# Altium schematic symbol library LimeMicroAltiumLib.SchLib: 659 symbols (part 20 of 22)
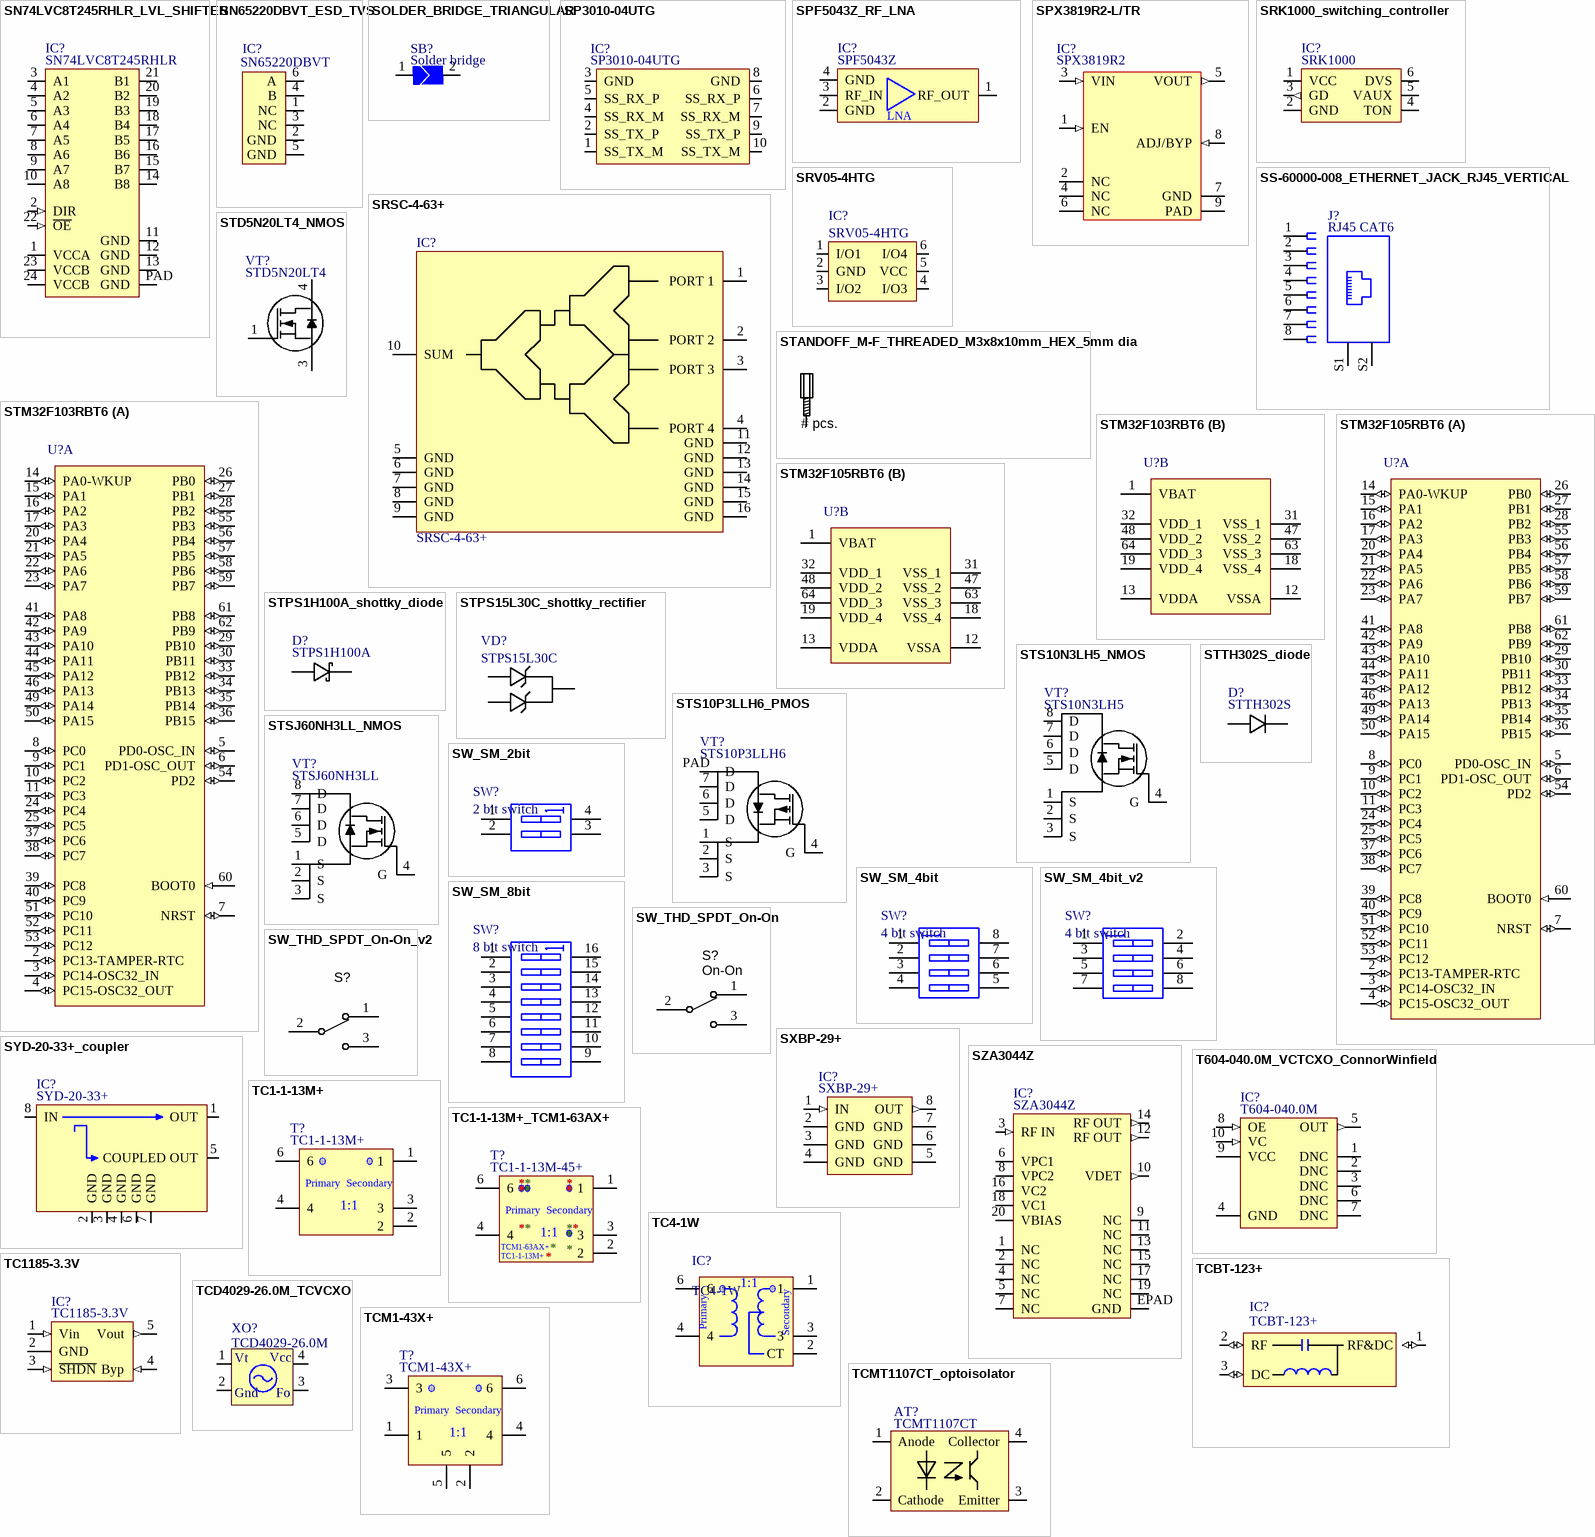
[diagram p97: symbols SN74LVC8T245RHLR_LVL_SHIFTER to TCMT1107CT_optoisolator]

## STS10P3LLH6_PMOS
designator VT?, comment STS10P3LLH6
Part Description: P-Channel 30V 10A (Ta) 2.7W (Ta) Surface Mount 8-SO; Manufacturer: STMicroelectronics; Drain to Source Voltage (Vdss): 30V; Continuous Drain Current (ID): 10A; Rds On Max: 12mR; Input Capacitance: 3.35nF; Max Power Dissipation: 2.7W; ComponentLink1URL: http://www.st.com/web/en/resource/technical/document/datasheet/CD00103832.pdf; ComponentLink1Description: http://www.st.com/web/en/resource/technical/document/datasheet/CD00103832.pdf; ComponentLink2URL: http://www.st.com/content/ccc/resource/technical/document/datasheet/00/75/48/c3/62/90/4a/32/CD00103832.pdf/files/CD00103832.pdf/jcr:content/translations/en.CD00103832.pdf; ComponentLink2Description: http://www.st.com/content/ccc/resource/technical/document/datasheet/00/75/48/c3/62/90/4a/32/CD00103832.pdf/files/CD00103832.pdf/jcr:content/translations/en.CD00103832.pdf; ComponentLink3URL: http://www.mouser.com/ds/2/389/CD00103832-114014.pdf; ComponentLink3Description: http://www.mouser.com/ds/2/389/CD00103832-114014.pdf; Supplier 1: Digi-Key; Manufacturer Part Number 1: STS10P3LLH6; Stock 1: 826; Pricing 1: 1=1.78, 10=1.581, 100=1.2491, 500=0.96872, 1000=0.76478 (USD); Mount: Surface Mount; Case/Package: SOIC; Number of Pins: 8; Min Operating Temperature: -55°C; Max Operating Temperature: 150°C; Packaging: Tape and Reel; Lead Free: Lead Free; Supplier Part Number 1: 497-15482-6-ND
footprint STS10N3LH5_NMOS_SO8 (SOIC, 8-Leads, Body 4,90x3,90mm, Pitch 1,27mm, IPC Medium Density)
pins: 1 S, 2 S, 3 S, 4 G, 5 D, 6 D, 7 D, PAD D

## STSJ60NH3LL_NMOS
designator VT?, comment STSJ60NH3LL
Manufacturer: STMicroelectronics; Part Description: N-Channel 30V 60A (Tc) 3W (Ta), 50W (Tc) Surface Mount 8-SOIC-EP; Rds On Max: 5.7mR; Input Capacitance: 1.81nF; Rise Time: 65ns; Resistance: 0.004R; Drain to Source Voltage (Vdss): 30V; Continuous Drain Current (ID): 15A; Max Power Dissipation: 3W; Fall Time: 20ns; Power Dissipation: 50W; Turn-Off Delay Time: 38ns; Gate to Source Voltage (Vgs): 16V; Supplier 1: Digi-Key; Manufacturer Part Number: STSJ60NH3LL; Stock 1: 6770; Pricing 1: 1=2.63, 10=2.379, 100=1.9119, 500=1.48706, 1000=1.23214 (USD); Mount: Surface Mount; Min Operating Temperature: -55°C; Max Operating Temperature: 150°C; Package Quantity: 1; Packaging: Tape and Reel; Drain to Source Breakdown Voltage: 30V; Drain to Source Resistance: 5.7mR; Voltage Rating (DC): 30V; Current Rating: 15A; On-State Resistance: 5.7mR; Lead Free: Lead Free; ComponentLink1URL: http://www.st.com/web/en/resource/technical/document/datasheet/CD00103832.pdf; ComponentLink1Description: http://www.st.com/web/en/resource/technical/document/datasheet/CD00103832.pdf; ComponentLink2URL: http://www.st.com/content/ccc/resource/technical/document/datasheet/00/75/48/c3/62/90/4a/32/CD00103832.pdf/files/CD00103832.pdf/jcr:content/translations/en.CD00103832.pdf; ComponentLink2Description: http://www.st.com/content/ccc/resource/technical/document/datasheet/00/75/48/c3/62/90/4a/32/CD00103832.pdf/files/CD00103832.pdf/jcr:content/translations/en.CD00103832.pdf; ComponentLink3URL: http://www.mouser.com/ds/2/389/CD00103832-114014.pdf; ComponentLink3Description: http://www.mouser.com/ds/2/389/CD00103832-114014.pdf; Supplier Part Number 1: 497-5252-6-ND
footprint STS10N3LH5_NMOS_SO8 (SOIC, 8-Leads, Body 4,90x3,90mm, Pitch 1,27mm, IPC Medium Density)
pins: 1 S, 2 S, 3 S, 4 G, 5 D, 6 D, 7 D, 8 D

## STTH302S_diode
designator D?, comment STTH302S
Part Description: Diode Standard 200V 3A Surface Mount SMC; Manufacturer: STMicroelectronics; Max Surge Current: 100A; Recovery Time: 35ns; Forward Voltage: 950mV; Forward Current: 3A; Peak Reverse Current: 3uA; Max Repetitive Reverse Voltage (Vrrm): 200V; Element Configuration: Single; Polarity: Standard; Supplier 1: Digi-Key; Manufacturer Part Number 1: STTH302S; Stock 1: 8931; Pricing 1: 1=0.78, 10=0.683, 100=0.5237, 500=0.414, 1000=0.3312 (USD); Mount: Stud,Surface Mount; Case/Package: SMC; Number of Pins: 2; Min Operating Temperature: -65°C; Max Operating Temperature: 175°C; Package Quantity: 1; Packaging: Tape and Reel; Average Rectified Current: 3A; Reverse Recovery Time: 35ns; Peak Non-Repetitive Surge Current: 100A; Max Forward Surge Current (Ifsm): 100A; Voltage Rating (DC): 200V; Current Rating: 3A; Output Current: 3A; Reverse Voltage: 200V; Max Reverse Voltage (DC): 200V; Length: 7.15mm; Height: 2.45mm; Width: 6.25mm; Radiation Hardening: No; REACH SVHC: No SVHC; Lead Free: Lead Free; ComponentLink1URL: http://www.st.com/web/catalog/sense_power/FM64/CL830/SC4/PF70422?referrer=70032480; ComponentLink1Description: http://www.st.com/web/catalog/sense_power/FM64/CL830/SC4/PF70422?referrer=70032480; ComponentLink2URL: http://www.st.com/st-web-ui/static/active/en/resource/technical/document/datasheet/CD00002930.pdf; ComponentLink2Description: http://www.st.com/st-web-ui/static/active/en/resource/technical/document/datasheet/CD00002930.pdf; ComponentLink3URL: https://www.distrelec.biz/Web/Downloads/29/30/CD00002930.pdf?mime=application%2Fpdf; ComponentLink3Description: https://www.distrelec.biz/Web/Downloads/29/30/CD00002930.pdf?mime=application%2Fpdf; ComponentLink4URL: http://www.st.com/content/ccc/resource/technical/document/datasheet/bc/ad/88/88/7d/b3/47/3b/CD00002930.pdf/files/CD00002930.pdf/jcr:content/translations/en.CD00002930.pdf; ComponentLink4Description: http://www.st.com/content/ccc/resource/technical/document/datasheet/bc/ad/88/88/7d/b3/47/3b/CD00002930.pdf/files/CD00002930.pdf/jcr:content/translations/en.CD00002930.pdf; Supplier Part Number 1: 497-5230-6-ND
footprint BAT46JFILM_shottky_diode_SOD323 (SOD-323; 2 Leads; Body 1.8 x 1.35 mm, (LxW))
footprint STTH302S_diode
pins: A, C

## SW_SM_2bit
designator SW?, comment 2 bit switch
Manufacturer: TE Connectivity Alcoswitch Switches; Manufacturer Part Number 1: 1571983-1; Circuit: SPST; Voltage Rating: 24VDC; Mechanical Life: 1,000 Cycles; Current Rating: 25mA; Actuator Level: Flush, Recessed; Pitch: 0.050" (1.27mm), Half; Actuator Type: Slide (Standard); Body Material: Polyphenylene Sulfide (PPS); Number of Positions: 2; Washable: Yes; Supplier 1: Digi-Key; Features: Tape Seal; Termination Style: Gull Wing; Category: Switches; Electrical Life: 1,000 Cycles; Length: 0.144" (3.67mm); Contact Finish: Gold; Packaging: Tube; Operating Temperature: -30°C ~ 85°C; RoHS: RoHS Compliant; Contact Material: Copper Alloy; Height Above Board: 0.091" (2.30mm); Mounting Type: Surface Mount; Supplier Part Number 1: 450-1431-ND
footprint SW_2WAY_SMD_1P27 (DIP Switch; 16 Leads, 1.27 pitch)
pins: 1 A1, 2 A2, 3 B2, 4 B1

## SW_SM_4bit
designator SW?, comment 4 bit switch
Manufacturer Part Number 1: A6H-4101; Manufacturer: Omron Electronics Inc-EMC Div; Pitch: 0.050" (1.27mm), Half; Mechanical Life: 1,000 Cycles; Washable: No; Current Rating: 25mA; Number of Positions: 4; Voltage Rating: 24VDC; Actuator Level: Flush, Recessed; Circuit: SPST; Actuator Type: Slide (Standard); Supplier 1: Digi-Key; Height Above Board: 0.061" (1.55mm); RoHS: RoHS Compliant; Termination Style: Gull Wing; Electrical Life: 1,000 Cycles; Length: 0.248" (6.31mm); Category: Switches; Operating Temperature: -20°C ~ 70°C; Body Material: -; Contact Material: -; Features: -; Mounting Type: Surface Mount; Contact Finish: -; Packaging: Tube; Supplier Part Number 1: SW1080-ND
footprint SW_4WAY_SMD_1P27 (DIP Switch; 8 Leads, 1.27 pitch)
pins: 1 A1, 2 A2, 3 A3, 4 A4, 5 B4, 6 B3, 7 B2, 8 B1

## SW_SM_4bit_v2
designator SW?, comment 4 bit switch
Part Description: Dip Switch SPST Position Through Hole, Right Angle Piano Actuator 25mA 24VDC; Manufacturer: CUI Devices; Manufacturer Part Number 1: DS02C-254-1L-04BE; Supplier 1: Digi-Key; Supplier Part Number 1: 2223-DS02C-254-1L-04BE-ND; Stock 1: 1133; Pricing 1: 1=0,60000, 10=0,58100, 25=0,55920, 100=0,48400, 250=0,44100, 500=0,40874, 1000=0,36572, 2500=0,34636, 5000=0,32054 (USD); RoHS: Yes
footprint DS02C-254-1L-04BE_DIP_SWITCH_4PIN
pins: 1 A1, 2 B1, 3 A2, 4 B2, 5 A3, 6 B3, 7 A4, 8 B4

## SW_SM_8bit
designator SW?, comment 8 bit switch
Manufacturer: Omron Electronics Inc-EMC Div; Manufacturer Part Number: A6H-8101; Actuator Level: Flush; Actuator Type: Standard; Circuit: SPST; Contact Rating @ Voltage: 0.025A @ 24VDC; Number of Positions: 8; Supplier 1: Digi-Key; Mounting Type: Surface Mount; Category: Switches; Supplier Part Number 1: SW1118-ND
footprint SW_8WAY_SMD (DIP Switch; 16 Leads)
pins: 1 A1, 2 A2, 3 A3, 4 A4, 5 A5, 6 A6, 7 A7, 8 A8, 9 B8, 10 B7, 11 B6, 12 B5, 13 B4, 14 B3, 15 B2, 16 B1

## SW_THD_SPDT_On-On
designator S?, comment ON-ON
Switch THD vertical toggle SPDT; Manufacturer 1: TE Connectivity; Manufacturer Part Number 1: SLS121PC04; Contact Rating @ Voltage: 0.25A @ 125VAC; Circuit: SPDT; Mounting Type: PCB mount; Supplier 1: Digi-Key; Supplier Part Number 1: 450-1598-ND; Switch Function: On-On
footprint SWITCH_SPDT_SLIDER (TE Connectivity SLS121PC04 SPDT slider)
footprint SWITCH_SPDT_SLIDER (TE Connectivity SLS121PC04 SPDT slider)
pins: 1, 2, 3

## SW_THD_SPDT_On-On_v2
designator S?, comment ON-ON  (value not drawn)
Switch THD vertical toggle SPDT; Manufacturer Part Number: 1101M2S3CQE2; Manufacturer: C&K Components; Voltage Rating - AC: 120V; Actuator Length: 5.08mm; Current Rating: 6A (AC/DC); Electrical Life: 40,000 Cycles; Switch Travel: 2.16mm; Voltage Rating - DC: 28V; Supplier 1: Digi-Key; Termination Style: PC Pin; Operating Temperature: -30°C ~ 65°C; Category: Switches; Switch Function: On-On; Supplier Part Number 1: CKN5001-ND
footprint SWITCH_SPDT_SLIDER - duplicate (TE Connectivity SLS121PC04 SPDT slider)
pins: 1, 2, 3

## SXBP-29+
designator IC?
Manufacturer: MiniCircuits; Part Description: Bandpass Filter;  50Ω; 24 to 35 MHz; Low insertion loss (0.9dB typical); Manufacturer Part Number 1: SXBP-29+; Supplier Part Number 1: SXBP-29+; Supplier 1: Minicircuits
footprint SXBP-29+
pins: 1 IN (in), 2 GND, 3 GND, 4 GND, 5 GND, 6 GND, 7 GND, 8 OUT (out)

## SYD-20-33+_coupler
designator IC?, comment SYD-20-33+
Directional RF coupler 30 to 3000 MHz
footprint SYD-20-33+
pins: 1 OUT (out), 2 GND, 3 GND, 4 GND, 5 COUPLED OUT (out), 6 GND, 7 GND, 8 IN (in)

## SZA3044Z
designator IC?
Manufacturer: RFMD; Manufacturer Part Number 1: SZA-3044Z; Part Description: RF Amplifier IC 802.16/WiMax, WLL 2.7GHz ~ 3.8GHz 20-QFN (4x4); Gain: 26dB; Frequency: 3.8GHz; P1dB: 30dBm; Noise Figure: 5dB; Operating Supply Current: 240mA; Test Frequency: 3.6GHz; Supplier 1: Digi-Key; Stock 1: 2697; Pricing 1: 1=8,64000, 10=7,92300, 25=7,20320, 100=6,48270, 250=5,94248, 500=5,40226, 1000=4,86203 (USD); RoHS: Yes; Case/Package: QFN; Package Quantity: 1; Packaging: Tape and Reel; ComponentLink1URL: https://datasheet.ciiva.com/26924/sza-3044z-26924889.pdf?src-supplier=IIIC; ComponentLink1Description: https://datasheet.ciiva.com/26924/sza-3044z-26924889.pdf?src-supplier=IIIC; ComponentLink2URL: https://datasheet.ciiva.com/2790/sza3044z-data-sheet-2790248.pdf?src-supplier=Digi-Key; ComponentLink2Description: https://datasheet.ciiva.com/2790/sza3044z-data-sheet-2790248.pdf?src-supplier=Digi-Key; ComponentLink3URL: https://datasheet.ciiva.com/2790/sza3044z-data-sheet-2790249.pdf?src-supplier=Digi-Key; ComponentLink3Description: https://datasheet.ciiva.com/2790/sza3044z-data-sheet-2790249.pdf?src-supplier=Digi-Key; ComponentLink4URL: https://datasheet.ciiva.com/2790/sza3044z-data-sheet-2790250.pdf?src-supplier=Digi-Key; ComponentLink4Description: https://datasheet.ciiva.com/2790/sza3044z-data-sheet-2790250.pdf?src-supplier=Digi-Key; Supplier Part Number 1: 599-1071-1-ND
footprint SZA3044Z_QFN20 (Footprint not found)
pins: 1 NC, 2 NC, 3 RF IN (in), 4 NC, 5 NC, 6 VPC1 (power), 7 NC, 8 VPC2 (power), 9 NC, 10 VDET (out), 11 NC, 12 RF OUT (out), 13 NC, 14 RF OUT (out), 15 NC, 16 VC2 (power), 17 NC, 18 VC1 (power), 19 NC, 20 VBIAS (power), EPAD GND

## T604-040.0M_VCTCXO_ConnorWinfield
designator IC?, comment T604-040.0M
Part Description: 40 MHz VCTCXO LVCMOS Oscillator 3.3V Enable/Disable 10-SMD, No Lead; Manufacturer: Connor-Winfield; Description: LVCMOS Output Clock Oscillator, 40MHz Nom; Fall Time: 8ns; Frequency: 40MHz; Frequency Stability: 0.28ppm; Load Capacitance: 15pF; Max Supply Current: 6mA; Max Supply Voltage: 3.465V; Min Supply Voltage: 3.135V; Nominal Supply Voltage (DC): 3.3V; Output Type: LVCMOS; Supplier 1: DigiKey; Supplier Part Number 1: CW776CT-ND; Manufacturer Part Number 1: T604-040.0M; Stock 1: 73; Pricing 1: 1=30,65, 10=27,54 (USD); RoHS: Compliant; Case/Package: SMD/SMT; Height: 2.3876mm; Introduction Date: 2008-05-23; Length: 7.0104mm; Lifecycle Status: Production; Max Operating Temperature: 85°C; Min Operating Temperature: -40°C; Mount: Surface Mount; Number of Pins: 10; Number of Terminals: 10; Packaging: Cut Tape (CT); REACH SVHC: Unaffected; Rise Time: 8ns; Width: 5.0038mm; ComponentLink1URL: https://datasheet.octopart.com:443/T604-040.0M-Connor-Winfield-datasheet-180230288.pdf?src-supplier=IHS; ComponentLink1Description: https://datasheet.octopart.com:443/T604-040.0M-Connor-Winfield-datasheet-180230288.pdf?src-supplier=IHS
footprint T604-040.0M_VCTCXO_ConnorWinfield (Footprint not found)
pins: 1 DNC, 2 DNC, 3 DNC, 4 GND, 5 OUT (out), 6 DNC, 7 DNC, 8 OE (in), 9 VCC (power), 10 VC (in)

## TC1-1-13M+
designator T?
Part Description: RF balun; 1:1 ratio; 3 dB bandwidth: 0.1 MHz to 3.5 GHz; 3.8mm x 3.8mm; Supplier 1: Minicircuits; Manufacturer Part Number 1: TC1-1-13M+; Supplier Part Number: TC1-1-13M+
footprint TC1-1-13MA+_v2 (Balun)
pins: 1, 2, 3, 4, 6
text: Primary; Secondary; 1:1

## TC1-1-13M+_TCM1-63AX+
designator T?, comment TC1-1-13M-45+
Part Description: RF balun; 1:1 ratio; 3 dB bandwidth: 0.1 MHz to 3.5 GHz; 3.8mm x 3.8mm; Supplier 1: Minicircuits; Manufacturer Part Number 1: TC1-1-13M-45+; Supplier Part Number: TC1-1-13M-45+
footprint TC1-1-13MA+_JA4220-AL_TCM1-63AX+ (Balun compatible with TC1-1-13MA+, JA4220-AL_ and TCM1-63AX+)
pins: 1, 2, 3, 4, 6
text: Primary; Secondary; 1:1; TCM1-63AX+

## TC4-1W
designator IC?
Part Description: RF Transformer; 50R, 3 to 800 MHz; with secondary center tap; Manufacturer: Mini-CIrcuits; Manufacturer Part Number 1: TC4-1W; Supplier Part Number 1: TC4-1W; Supplier 1: Mini-Circuits
footprint TC1-1-13MA+_JA4220-AL_ (Balun compatible with TC1-1-13MA+ and JA4220-AL_)
pins: 1, 2 CT, 3, 4, 6
text: 1:1; Primary; Secondary

## TC1185-3.3V
designator IC?
Part Description: IC REG LDO 3.3V 0.15A SOT23-5; Manufacturer: Microchip Technology; Manufacturer Part Number 1: TC1185-3.3VCT713; Regulator Topology: Positive Fixed; Voltage - Output: 3.3V; Current - Output: 150mA; Voltage - Dropout (Typical): 0.27V @ 150mA; Voltage - Input: Up to 6V; Supplier 1: Digi-Key; RoHS: RoHS Compliant; Category: Integrated Circuits (ICs); Stock 1: 24034; Pricing 1: 1=0.38, 25=0.3192, 100=0.2884 (USD); Packaging: Cut Tape (CT); Part Status: Active; Current - Limit (Min): -; Operating Temperature: -40°C ~ 125°C; Mounting Type: Surface Mount; Package / Case: SC-74A, SOT-753; Supplier Device Package: SOT-23-5; ComponentLink1URL: http://www.microchip.com/mymicrochip/filehandler.aspx?ddocname=en011417; ComponentLink1Description: http://www.microchip.com/mymicrochip/filehandler.aspx?ddocname=en011417; Supplier Part Number 1: TC11853.3VCT713CT-ND
footprint SOT23-5
pins: 1 Vin (in), 2 GND, 3 ~{SHDN} (in), 4 Byp (in), 5 Vout (out)

## TCBT-123+
designator IC?
Surface mount bias-tee, wideband; Manufacturer_Name: Mini-Circuits; Manufacturer_Part_Number: TCBT-14+; Supplier Part Number 1: TCBT-14+; Supplier 1: Mini-Circuits; Part Description: Surface mount bias-tee, wideband
footprint TCBT-123+_GU1414
pins: 1 RF&DC (io), 2 RF (io), 3 DC (io), 4 NOT_USED hidden, 5 PAD_1 hidden, 6 PAD_2 hidden

## TCD4029-26.0M_TCVCXO
designator XO?, comment TCD4029-26.0M
pins: 1 Vt (power), 2 GND, 3 Fo, 4 VCC (power)
text: Vcc; Gnd

## TCM1-43X+
designator T?
Also compatible with JA4220-AL_; Part Description: RF balun; 1:1 ratio; 3 dB bandwidth: 10 MHz to 4 GHz; 3.8mm x 3.8mm; Supplier 1: Coilcraft; Manufacturer Part Number 1: TCM1-43X+; Supplier Part Number: TCM1-43X+
footprint TCM1-43X+ (Balun)
pins: 1, 2, 3, 4, 5, 6
text: Primary; Secondary; 1:1

## TCMT1107CT_optoisolator
designator AT?, comment TCMT1107CT
Part Description: Optoisolator Transistor Output 5000Vrms 1 Channel 4-SMD; Manufacturer: Vishay Semiconductors; Reverse Breakdown Voltage: 6V; Max Power Dissipation: 250mW; Number of Channels: 1; Output Voltage: 70V; Forward Voltage: 1.6V; Forward Current: 60mA; Rise Time: 3s; Output Current per Channel: 50mA; Collector Emitter Saturation Voltage: 300mV; Isolation Voltage: 3.75kV; Fall Time: 4.7s; Current Transfer Ratio: 160%; ComponentLink1URL: https://www.verical.com/server-webapp/html/getDatasheet?partID=312696; ComponentLink1Description: https://www.verical.com/server-webapp/html/getDatasheet?partID=312696; ComponentLink2URL: https://www.fairchildsemi.com/datasheets/FO/FOD817A.pdf; ComponentLink2Description: https://www.fairchildsemi.com/datasheets/FO/FOD817A.pdf; ComponentLink3URL: http://www.fairchildsemi.com/ds/FO/FOD817A.pdf; ComponentLink3Description: http://www.fairchildsemi.com/ds/FO/FOD817A.pdf; ComponentLink4URL: http://www.fairchildsemi.com/datasheets/FO/FOD817A.pdf; ComponentLink4Description: http://www.fairchildsemi.com/datasheets/FO/FOD817A.pdf; ComponentLink5URL: http://www.mouser.com/ds/2/149/FOD817A-194238.pdf; ComponentLink5Description: http://www.mouser.com/ds/2/149/FOD817A-194238.pdf; ComponentLink6URL: https://www.fairchildsemi.com/datasheets/FO/FOD817D.pdf; ComponentLink6Description: https://www.fairchildsemi.com/datasheets/FO/FOD817D.pdf; Supplier 1: Digi-Key; Manufacturer Part Number 1: TCMT1107; Stock 1: 139303; Pricing 1: 1=0.75, 10=0.585, 25=0.4848, 100=0.418, 250=0.36784, 500=0.31768, 1000=0.2508 (USD); Mount: PCB,Surface Mount; Case/Package: SOP; Number of Pins: 4; Contact Plating: Matte,Tin; Min Operating Temperature: -40°C; Max Operating Temperature: 100°C; Packaging: Tape and Reel; Package Quantity: 1; Collector Emitter Voltage (VCEO): 70V; Max Output Voltage: 70V; Max Collector Current: 50mA; Reverse Voltage (DC): 6V; Number of Elements: 1; Power Dissipation: 250mW; Max Input Current: 60mA; Collector Emitter Breakdown Voltage: 70V; Input Current: 50mA; Voltage Rating (DC): 70V; Voltage: 6V; Radiation Hardening: No; REACH SVHC: No SVHC; Lead Free: Lead Free; ComponentLink7URL: http://www.jameco.com/Jameco/Products/ProdDS/1107109.pdf; ComponentLink7Description: http://www.jameco.com/Jameco/Products/ProdDS/1107109.pdf; ComponentLink8URL: http://www.vishay.com/docs/83510/tcmt1100.pdf; ComponentLink8Description: http://www.vishay.com/docs/83510/tcmt1100.pdf; ComponentLink9URL: http://www.mouser.com/ds/2/427/tcmt1100-103040.pdf; ComponentLink9Description: http://www.mouser.com/ds/2/427/tcmt1100-103040.pdf; ComponentLink10URL: http://www.farnell.com/datasheets/485045.pdf; ComponentLink10Description: http://www.farnell.com/datasheets/485045.pdf; Supplier Part Number 1: TCMT1107CT-ND
footprint TCMT1107CT_optoisolator
pins: 1 Anode, 2 Cathode, 3 Emitter, 4 Collector

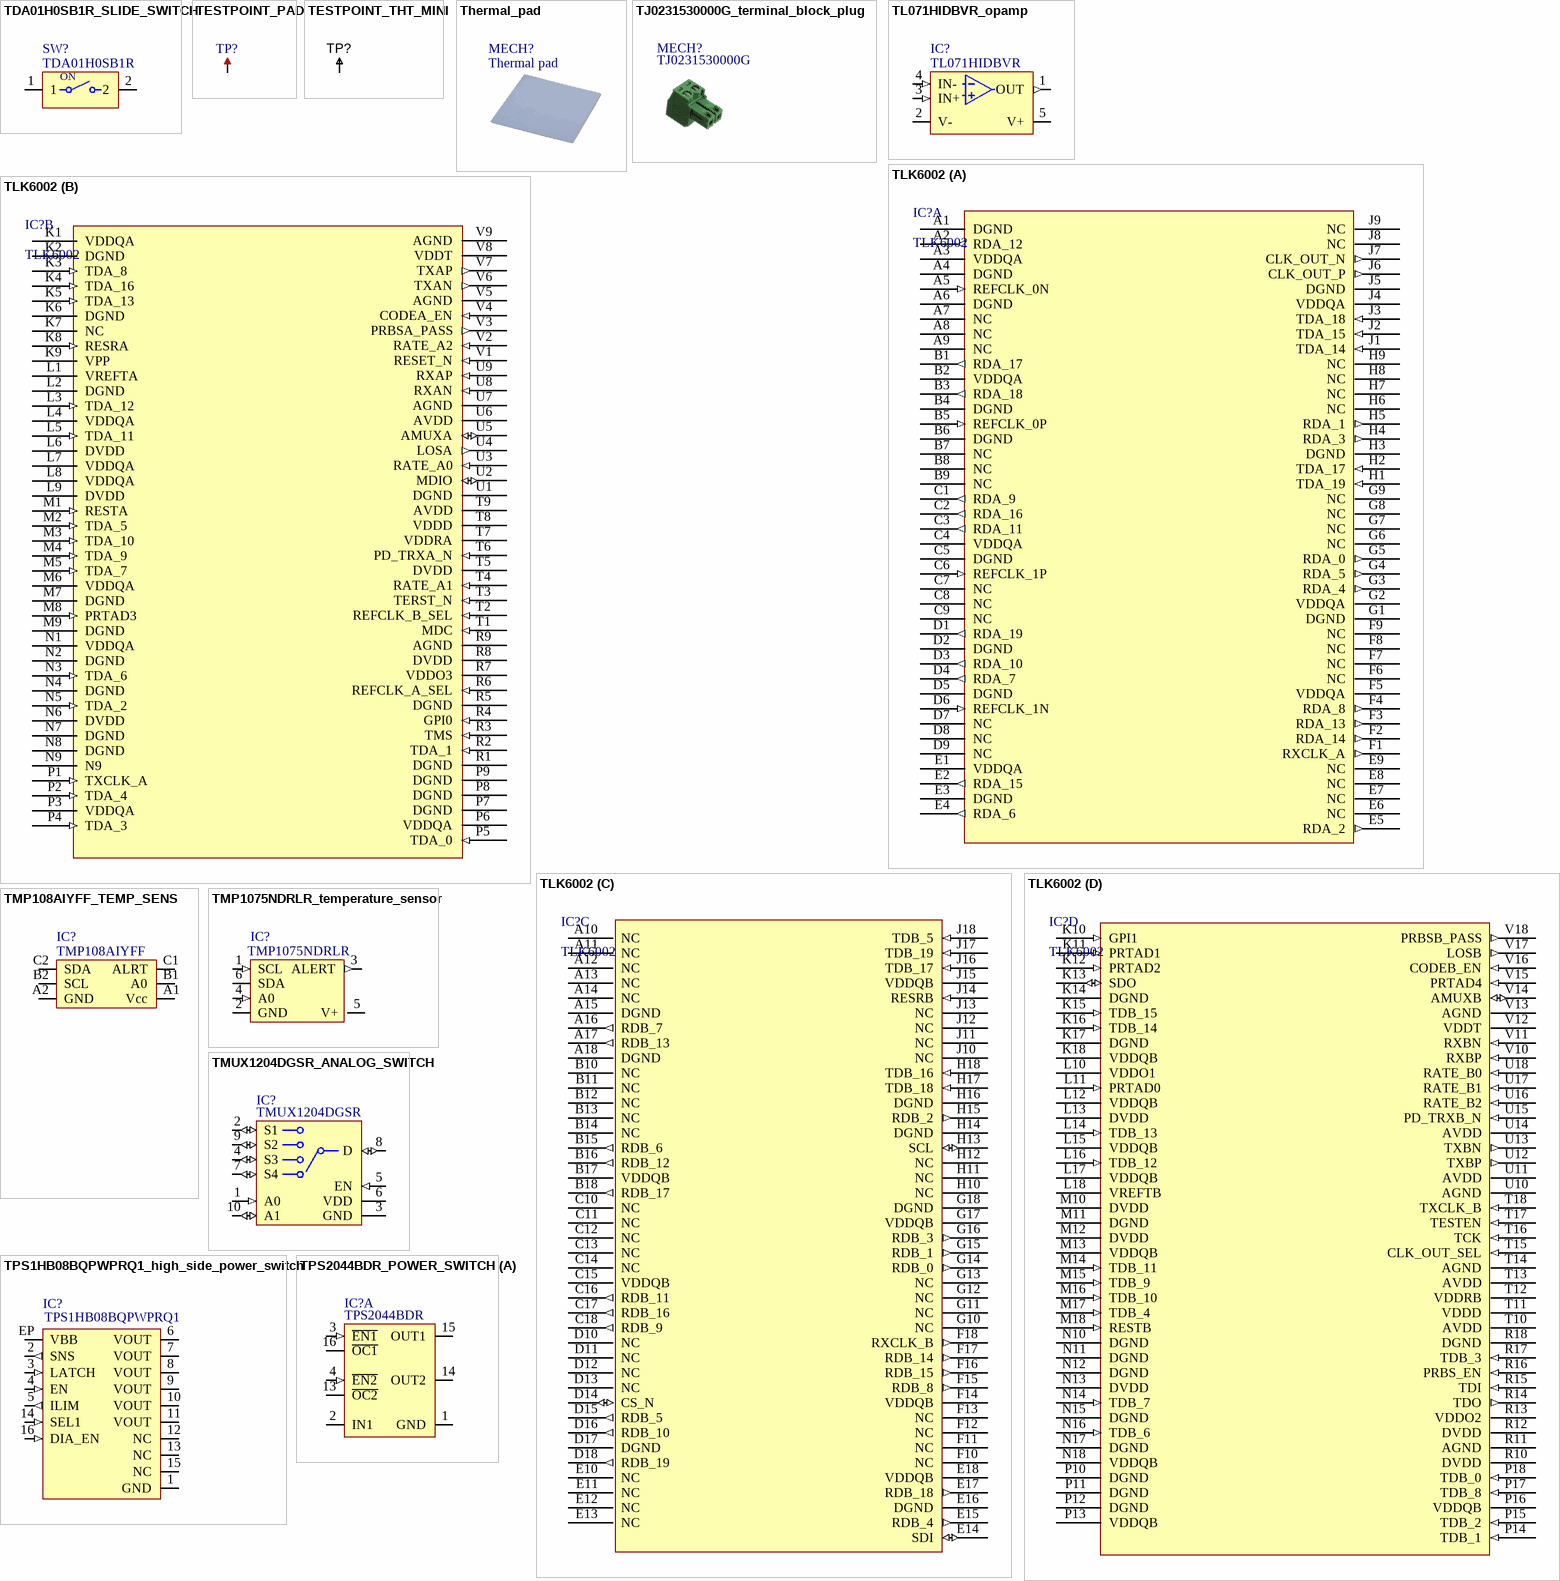
[diagram p68: symbols TDA01H0SB1R_SLIDE_SWITCH to TPS2044BDR_POWER_SWITCH]

## TDA01H0SB1R_SLIDE_SWITCH
designator SW?, comment TDA01H0SB1R
Manufacturer: C&K Components; Actuator Material: Liquid Crystal Polymer; Contact Current Rating: 25mA; Contact Resistance: 100mΩ; Electrical Life: 1kcycles; Max Voltage Rating (DC): 24V; Number of Circuits: 1; Sealable: MOLDED; Throw Configuration: SPST; Washable: Yes; Part Description: *; Supplier 1: DigiKey; Supplier Part Number 1: CKN10538CT-ND; Manufacturer Part Number 1: TDA01H0SB1R; Stock 1: 5831; Pricing 1: 1=2,83, 10=2,374, 25=2,2008, 100=1,9605, 250=1,81988, 500=1,72422, 1000=1,63806, 2500=1,53834, 5000=1,47313 (USD); RoHS: Compliant; Case/Package: DIP; China RoHS: Compliant; Contact Plating: Gold; Country of Origin: Mainland China; Export Control Classification Number (ECCN) Code: EAR99; Height: 2.3114mm; Harmonized Tariff Schedule (HTS) Code: 8536.50.70.00; Insulation Resistance: 100MΩ; Introduction Date: 2013-03-25; Lead Free: Lead Free; Length: 2.4mm; Life (Cycles): 1kcycles; Lifecycle Status: Production; Max Current Rating: 25mA; Max Operating Temperature: 85°C; Min Operating Temperature: -40°C; Mount: Surface Mount; Number of Positions: 1; REACH SVHC: Yes; Termination: SMD/SMT; Voltage Rating (DC): 24V; ComponentLink1URL: https://datasheet.octopart.com:443/TDA01H0SB1R-C%26K-Components-datasheet-62111180.pdf?src-supplier=Farnell; ComponentLink1Description: https://datasheet.octopart.com:443/TDA01H0SB1R-C%26K-Components-datasheet-62111180.pdf?src-supplier=Farnell; ComponentLink2URL: https://datasheet.octopart.com:443/TDA01H0SB1R-C%26K-Components-datasheet-27907599.pdf?src-supplier=Newark; ComponentLink2Description: https://datasheet.octopart.com:443/TDA01H0SB1R-C%26K-Components-datasheet-27907599.pdf?src-supplier=Newark; ComponentLink3URL: https://datasheet.octopart.com:443/TDA01H0SB1R-C%26K-Components-datasheet-154730585.pdf?src-supplier=Electro+Sonic; ComponentLink3Description: https://datasheet.octopart.com:443/TDA01H0SB1R-C%26K-Components-datasheet-154730585.pdf?src-supplier=Electro+Sonic; ComponentLink4URL: https://datasheet.octopart.com:443/TDA01H0SB1R-C%26K-Components-datasheet-110647879.pdf?src-supplier=Sager+Electronics; ComponentLink4Description: https://datasheet.octopart.com:443/TDA01H0SB1R-C%26K-Components-datasheet-110647879.pdf?src-supplier=Sager+Electronics; ComponentLink5URL: https://datasheet.octopart.com:443/TDA01H0SB1R-C%26K-Components-datasheet-24578965.pdf?src-supplier=Future+Electronics; ComponentLink5Description: https://datasheet.octopart.com:443/TDA01H0SB1R-C%26K-Components-datasheet-24578965.pdf?src-supplier=Future+Electronics; ComponentLink6URL: http://sigma.octopart.com:80/reach_statement/ITT-company-18.pdf?src-supplier=Compliance+Statements; ComponentLink6Description: http://sigma.octopart.com:80/reach_statement/ITT-company-18.pdf?src-supplier=Compliance+Statements
footprint TDA01H0SB1R_SLIDE_SWITCH
pins: 1, 2
text: ON

## TESTPOINT_PAD
designator TP?  (value not drawn)  (no BOM)
Test Point PCB mount Miniature White
pins: 1

## TESTPOINT_THT_MINI
designator TP?  (value not drawn)
Test Point PCB mount Miniature White; Manufacturer 1: Keystone Electronics; Manufacturer Part Number 1: 5002; Mounting Type: 0.040" (1.0mm) Hole Diameter; Material: Base, Nylon 46, UL 94V-0; Supplier 1: Digi-Key; Supplier Part Number 1: 5002K-ND
footprint TP-THT-MINI (Thru-hole test point loop)
pins: 1

## Thermal_pad
designator MECH?, comment Thermal pad  (mechanical)

## TJ0231530000G_terminal_block_plug
designator MECH?, comment TJ0231530000G  (mechanical)
Part Description: 2 Position Terminal Block Plug, Female Sockets 0.150" (3.81mm) 180° Free Hanging (In-Line); Manufacturer: Amphenol Anytek; Approvals: TUV, UL, VDE, cUL; Current Rating: 10A; Number of Contacts: 2; Number of Levels: 1; Voltage Rating: 300V; Wire/Cable Gauge: 16AWG; Supplier 1: DigiKey; Supplier Part Number 1: 609-3797-ND; Manufacturer Part Number 1: TJ0231530000G; Stock 1: 8633; Pricing 1: 1=0,67, 10=0,495, 25=0,4316, 50=0,3886, 100=0,3511, 250=0,31004, 500=0,28506, 2480=0,24419, 7440=0,22654 (USD); RoHS: Compliant; Color: Green; Export Control Classification Number (ECCN) Code: EAR99; Harmonized Tariff Schedule (HTS) Code: 8536.90.40.00; Introduction Date: 2018-05-09; Lifecycle Status: Production; Mount: Screw; Number of Pins: 2; Number of Rows: 1; Orientation: Straight; ComponentLink1URL: https://datasheet.octopart.com:443/TJ0231530000G-Amphenol-datasheet-182018099.pdf?src-supplier=IHS; ComponentLink1Description: https://datasheet.octopart.com:443/TJ0231530000G-Amphenol-datasheet-182018099.pdf?src-supplier=IHS; ComponentLink2URL: https://datasheet.octopart.com:443/TJ0231530000G-Amphenol-Anytek-datasheet-182363262.pdf?src-supplier=IHS; ComponentLink2Description: https://datasheet.octopart.com:443/TJ0231530000G-Amphenol-Anytek-datasheet-182363262.pdf?src-supplier=IHS; ComponentLink3URL: https://datasheet.octopart.com:443/TJ0231530000G-Amphenol-Anytek-datasheet-182251115.pdf?src-supplier=Electro+Sonic; ComponentLink3Description: https://datasheet.octopart.com:443/TJ0231530000G-Amphenol-Anytek-datasheet-182251115.pdf?src-supplier=Electro+Sonic; ComponentLink4URL: https://datasheet.octopart.com:443/TJ0231530000G-Amphenol-Anytek-datasheet-188853865.pdf?src-supplier=TME; ComponentLink4Description: https://datasheet.octopart.com:443/TJ0231530000G-Amphenol-Anytek-datasheet-188853865.pdf?src-supplier=TME; ComponentLink5URL: https://datasheet.octopart.com:443/TJ0231530000G-Amphenol-Anytek-datasheet-188853884.pdf?src-supplier=TME; ComponentLink5Description: https://datasheet.octopart.com:443/TJ0231530000G-Amphenol-Anytek-datasheet-188853884.pdf?src-supplier=TME

## TL071HIDBVR_opamp
designator IC?, comment TL071HIDBVR
Manufacturer: Texas Instruments; Supplier 1: Digikey; Supplier Part Number 1: 296-TL071HIDBVRCT-ND; Manufacturer Part Number 1: TL071HIDBVR; Stock 1: 8747; Pricing 1: 1=0,21, 10=0,14, 25=0,1236, 100=0,1054, 250=0,09668, 500=0,09146, 1000=0,08715 (USD); RoHS: No; Case/Package: 926Case; Number of Pins: 5NUMBER; Length: 2.9mm; Width: 1.6mm; Height: 1.45mm; Thickness: 1.2mm
footprint TL071HIDBVR_opamp_SOT23-5
pins: 1 OUT (out), 2 V- (power), 3 IN+ (in), 4 IN- (in), 5 V+ (power)

## TLK6002
designator IC?
Manufacturer: Texas Instruments; Manufacturer Part Number: TLK6002ZEU; Voltage - Supply: 1.5 V, 1.8 V; Number of Drivers/Receivers: 2/2; Duplex: Full; Protocol: Gigabit Ethernet; Supplier 1: Digi-Key; Type: Transceiver; Packaging: Tray; RoHS: RoHS Compliant; Category: Integrated Circuits (ICs); Operating Temperature: -40°C ~ 85°C; Mounting Type: Surface Mount; Package / Case: 324-BGA; Supplier Device Package: 324-BGA; Data Rate: -; Receiver Hysteresis: -; Supplier Part Number 1: 296-27459-5-ND
footprint TLK6002
part A pins: A1 DGND (power), A2 RDA_12 (out), A3 VDDQA (power), A4 DGND (power), A5 REFCLK_0N (in), A6 DGND (power), A7 NC, A8 NC, A9 NC, B1 RDA_17 (out), B2 VDDQA (power), B3 RDA_18 (out), B4 DGND (power), B5 REFCLK_0P (in), B6 DGND (power), B7 NC, B8 NC, B9 NC, C1 RDA_9 (out), C2 RDA_16 (out), C3 RDA_11 (out), C4 VDDQA (power), C5 DGND (power), C6 REFCLK_1P (in), C7 NC, C8 NC, C9 NC, D1 RDA_19 (out), D2 DGND (power), D3 RDA_10 (out), D4 RDA_7 (out), D5 DGND (power), D6 REFCLK_1N (in), D7 NC, D8 NC, D9 NC, E1 VDDQA (power), E2 RDA_15 (out), E3 DGND (power), E4 RDA_6 (out), E5 RDA_2 (out), E6 NC, E7 NC, E8 NC, E9 NC, F1 RXCLK_A (out), F2 RDA_14 (out), F3 RDA_13 (out), F4 RDA_8 (out), F5 VDDQA (power), F6 NC, F7 NC, F8 NC, F9 NC, G1 DGND (power), G2 VDDQA (power), G3 RDA_4 (out), G4 RDA_5 (out), G5 RDA_0 (out), G6 NC, G7 NC, G8 NC, G9 NC, H1 TDA_19 (in), H2 TDA_17 (in), H3 DGND (power), H4 RDA_3 (out), H5 RDA_1 (out), H6 NC, H7 NC, H8 NC, H9 NC, J1 TDA_14 (in), J2 TDA_15 (in), J3 TDA_18 (in), J4 VDDQA (power), J5 DGND (power), J6 CLK_OUT_P (out), J7 CLK_OUT_N (out), J8 NC, J9 NC
part B pins: K1 VDDQA (power), K2 DGND (power), K3 TDA_8 (in), K4 TDA_16 (in), K5 TDA_13 (in), K6 DGND (power), K7 NC, K8 RESRA (in), K9 VPP (power), L1 VREFTA (power), L2 DGND (power), L3 TDA_12 (in), L4 VDDQA (power), L5 TDA_11 (in), L6 DVDD (power), L7 VDDQA (power), L8 VDDQA (power), L9 DVDD (power), M1 RESTA (in), M2 TDA_5 (in), M3 TDA_10 (in), M4 TDA_9 (in), M5 TDA_7 (in), M6 VDDQA (power), M7 DGND (power), M8 PRTAD3 (in), M9 DGND (power), N1 VDDQA (power), N2 DGND (power), N3 TDA_6 (in), N4 DGND (power), N5 TDA_2 (in), N6 DVDD (power), N7 DGND (power), N8 DGND (power), N9, P1 TXCLK_A (in), P2 TDA_4 (in), P3 VDDQA (power), P4 TDA_3 (in), P5 TDA_0 (in), P6 VDDQA (power), P7 DGND (power), P8 DGND (power), P9 DGND (power), R1 DGND (power), R2 TDA_1 (in), R3 TMS (in), R4 GPI0 (in), R5 DGND (power), R6 REFCLK_A_SEL (in), R7 VDDO3 (power), R8 DVDD (power), R9 AGND (power), T1 MDC (in), T2 REFCLK_B_SEL (in), T3 TERST_N (in), T4 RATE_A1 (in), T5 DVDD (power), T6 PD_TRXA_N (in), T7 VDDRA (power), T8 VDDD (power), T9 AVDD (power), U1 DGND (power), U2 MDIO (io), U3 RATE_A0 (in), U4 LOSA (out), U5 AMUXA (io), U6 AVDD (power), U7 AGND (power), U8 RXAN (in), U9 RXAP (in), V1 RESET_N (in), V2 RATE_A2 (in), V3 PRBSA_PASS (out), V4 CODEA_EN (in), V5 AGND (power), V6 TXAN (out), V7 TXAP (out), V8 VDDT (power), V9 AGND (power)
part C pins: A10 NC, A11 NC, A12 NC, A13 NC, A14 NC, A15 DGND (power), A16 RDB_7 (out), A17 RDB_13 (out), A18 DGND (power), B10 NC, B11 NC, B12 NC, B13 NC, B14 NC, B15 RDB_6 (out), B16 RDB_12 (out), B17 VDDQB (power), B18 RDB_17 (out), C10 NC, C11 NC, C12 NC, C13 NC, C14 NC, C15 VDDQB (power), C16 RDB_11 (out), C17 RDB_16 (out), C18 RDB_9 (out), D10 NC, D11 NC, D12 NC, D13 NC, D14 CS_N (io), D15 RDB_5 (out), D16 RDB_10 (out), D17 DGND (power), D18 RDB_19 (out), E10 NC, E11 NC, E12 NC, E13 NC, E14 SDI (io), E15 RDB_4 (out), E16 DGND (power), E17 RDB_18 (out), E18 VDDQB (power), F10 NC, F11 NC, F12 NC, F13 NC, F14 VDDQB (power), F15 RDB_8 (out), F16 RDB_15 (out), F17 RDB_14 (out), F18 RXCLK_B (out), G10 NC, G11 NC, G12 NC, G13 NC, G14 RDB_0 (out), G15 RDB_1 (out), G16 RDB_3 (out), G17 VDDQB (power), G18 DGND (power), H10 NC, H11 NC, H12 NC, H13 SCL (io), H14 DGND (power), H15 RDB_2 (out), H16 DGND (power), H17 TDB_18 (in), H18 TDB_16 (in), J10 NC, J11 NC, J12 NC, J13 NC, J14 RESRB (in), J15 VDDQB (power), J16 TDB_17 (in), J17 TDB_19 (in), J18 TDB_5 (in)
part D pins: K10 GPI1 (in), K11 PRTAD1 (in), K12 PRTAD2 (in), K13 SDO (io), K14 DGND (power), K15 TDB_15 (in), K16 TDB_14 (in), K17 DGND (power), K18 VDDQB (power), L10 VDDO1 (power), L11 PRTAD0 (in), L12 VDDQB (power), L13 DVDD (power), L14 TDB_13 (in), L15 VDDQB (power), L16 TDB_12 (in), L17 VDDQB (power), L18 VREFTB (power), M10 DVDD (power), M11 DGND (power), M12 DVDD (power), M13 VDDQB (power), M14 TDB_11 (in), M15 TDB_9 (in), M16 TDB_10 (in), M17 TDB_4 (in), M18 RESTB (in), N10 DGND (power), N11 DGND (power), N12 DGND (power), N13 DVDD (power), N14 TDB_7 (in), N15 DGND (power), N16 TDB_6 (in), N17 DGND (power), N18 VDDQB (power), P10 DGND (power), P11 DGND (power), P12 DGND (power), P13 VDDQB (power), P14 TDB_1 (in), P15 TDB_2 (in), P16 VDDQB (power), P17 TDB_8 (in), P18 TDB_0 (in), R10 DVDD (power), R11 AGND (power), R12 DVDD (power), R13 VDDO2 (power), R14 TDO (out), R15 TDI (in), R16 PRBS_EN (in), R17 TDB_3 (in), R18 DGND (power), T10 AVDD (power), T11 VDDD (power), T12 VDDRB (power), T13 AVDD (power), T14 AGND (power), T15 CLK_OUT_SEL (in), T16 TCK (in), T17 TESTEN (in), T18 TXCLK_B (in), U10 AGND (power), U11 AVDD (power), U12 TXBP (out), U13 TXBN (out), U14 AVDD (power), U15 PD_TRXB_N (in), U16 RATE_B2 (in), U17 RATE_B1 (in), U18 RATE_B0 (in), V10 RXBP (in), V11 RXBN (in), V12 VDDT (power), V13 AGND (power), V14 AMUXB (io), V15 PRTAD4 (in), V16 CODEB_EN (in), V17 LOSB (out), V18 PRBSB_PASS (out)

## TMP108AIYFF_TEMP_SENS
designator IC?, comment TMP108AIYFF
Part Description: Temperature Sensor Digital, Local -40°C ~ 125°C 12 b 6-DSBGA; Manufacturer: Texas Instruments; Manufacturer Part Number 1: TMP108AIYFFR; Interface: I2C,SMBus,2-Wire; Min Supply Voltage: 1.4V; Max Supply Voltage: 3.6V; Nominal Supply Current: 12uA; Resolution: 12b; Quiescent Current: 6uA; Output Type: Digital; Supplier 1: Digi-Key; Supplier Part Number 1: 296-39295-1-ND; Stock 1: 0; RoHS: Yes; Mount: Surface Mount; Number of Pins: 6; Min Operating Temperature: -40°C; Max Operating Temperature: 125°C; Package Quantity: 3000; Packaging: Tape and Reel; Radiation Hardening: No; Lead Free: Lead Free; RoHS Compliant: Yes; ComponentLink1URL: https://datasheet.ciiva.com/46636/tmp108-46636604.pdf?src-supplier=Digi-Key; ComponentLink1Description: https://datasheet.ciiva.com/46636/tmp108-46636604.pdf?src-supplier=Digi-Key; ComponentLink2URL: https://datasheet.ciiva.com/29895/tmp108-29895365.pdf?src-supplier=Avnet; ComponentLink2Description: https://datasheet.ciiva.com/29895/tmp108-29895365.pdf?src-supplier=Avnet
footprint TMP108AIYFF_TEMP_SENS_6DSBGA (Footprint not found)
pins: A1 Vcc, A2 GND, B1 A0, B2 SCL, C1 ALRT, C2 SDA

## TMP1075NDRLR_temperature_sensor
designator IC?, comment TMP1075NDRLR
Part Description: Temperature Sensor Digital, Local -40°C ~ 125°C 12 b SOT-563; Manufacturer: Texas Instruments; Supplier 1: Digi-Key; Supplier Part Number 1: 296-TMP1075NDRLRCT-ND; Manufacturer Part Number 1: TMP1075NDRLR; Stock 1: 3405; Pricing 1: 1=0,67000, 5=0,63800, 10=0,55500, 25=0,48760, 50=0,40500, 100=0,34500, 500=0,30000, 1000=0,26250 (USD); RoHS: No; RoHS Compliant: Yes
footprint TMP1075NDRLR_temperature_sensor_SOT563
pins: 1 SCL (in), 2 GND, 3 ALERT (out), 4 A0 (in), 5 V+ (power), 6 SDA (io)

## TMUX1204DGSR_ANALOG_SWITCH
designator IC?, comment TMUX1204DGSR
Part Description: 1 Circuit IC Switch 4:1 5Ohm (Typ) 10-VSSOP; Manufacturer: Texas Instruments; Throw Configuration: 4360Throw Configuration; Max Supply Voltage: 5.5V; Min Supply Voltage: 1.08V; Nominal Supply Current: 10nA; Number of Channels: 1NUMBER; On-State Resistance: 5R; Resistance: 9R; Supplier 1: Digikey; Supplier Part Number 1: 296-TMUX1204DGSRCT-ND; Manufacturer Part Number 1: TMUX1204DGSR; Stock 1: 2584; Pricing 1: 1=0,49, 10=0,347, 25=0,3096, 100=0,269, 250=0,24964, 500=0,23794, 1000=0,22832 (USD); RoHS: Yes; Number of Pins: 10NUMBER; Length: 3mm; Width: 3mm; Height: 1.07mm; Thickness: 1.02mm; ComponentLink1URL: http://www.ti.com/general/docs/suppproductinfo.tsp?distId=10&amp;gotoUrl=http%3A%2F%2Fwww.ti.com%2Flit%2Fgpn%2Ftmux1204&src-supplier=Digikey; ComponentLink1Description: http://www.ti.com/general/docs/suppproductinfo.tsp?distId=10&amp;gotoUrl=http%3A%2F%2Fwww.ti.com%2Flit%2Fgpn%2Ftmux1204&src-supplier=Digikey
footprint TMUX1204DGSR_ANALOG_SWITCH_10-TSSOP
pins: 1 A0 (in), 2 S1 (io), 3 GND, 4 S3 (io), 5 EN (in), 6 VDD (power), 7 S4 (io), 8 D (io), 9 S2 (io), 10 A1 (io)

## TPS1HB08BQPWPRQ1_high_side_power_switch
designator IC?, comment TPS1HB08BQPWPRQ1
Part Description: Power Switch/Driver 1:1 N-Channel 70A 16-HTSSOP; Manufacturer: Texas Instruments; Supplier 1: Digi-Key; Supplier Part Number 1: 296-TPS1HB08BQPWPRQ1CT-ND; Manufacturer Part Number 1: TPS1HB08BQPWPRQ1; Stock 1: 2997; Pricing 1: 1=2,82000, 10=2,53100, 25=2,38760, 100=1,91000, 250=1,67124, 500=1,62350, 1000=1,28925 (USD); ComponentLink1URL: https://octopart.com/click/track?ai=10049&ct=datasheets&sig=08afd74&at=physicalpart&sid=370&ppid=102282400&hlid=30197904&src-supplier=TI+store; ComponentLink1Description: https://octopart.com/click/track?ai=10049&ct=datasheets&sig=08afd74&at=physicalpart&sid=370&ppid=102282400&hlid=30197904&src-supplier=TI+store; ComponentLink2URL: http://sigma.octopart.com/77689632/technical_drawing/Texas-Instruments-TPS1HB08BQPWPRQ1.pdf?src-supplier=TI+store; ComponentLink2Description: http://sigma.octopart.com/77689632/technical_drawing/Texas-Instruments-TPS1HB08BQPWPRQ1.pdf?src-supplier=TI+store
footprint TPS1HB08BQPWPRQ1_TSSOP16
pins: 1 GND, 2 SNS (out), 3 LATCH (in), 4 EN (in), 5 ILIM (out), 6 VOUT, 7 VOUT, 8 VOUT, 9 VOUT, 10 VOUT, 11 VOUT, 12 NC, 13 NC, 14 SEL1 (in), 15 NC, 16 DIA_EN (in), EP VBB

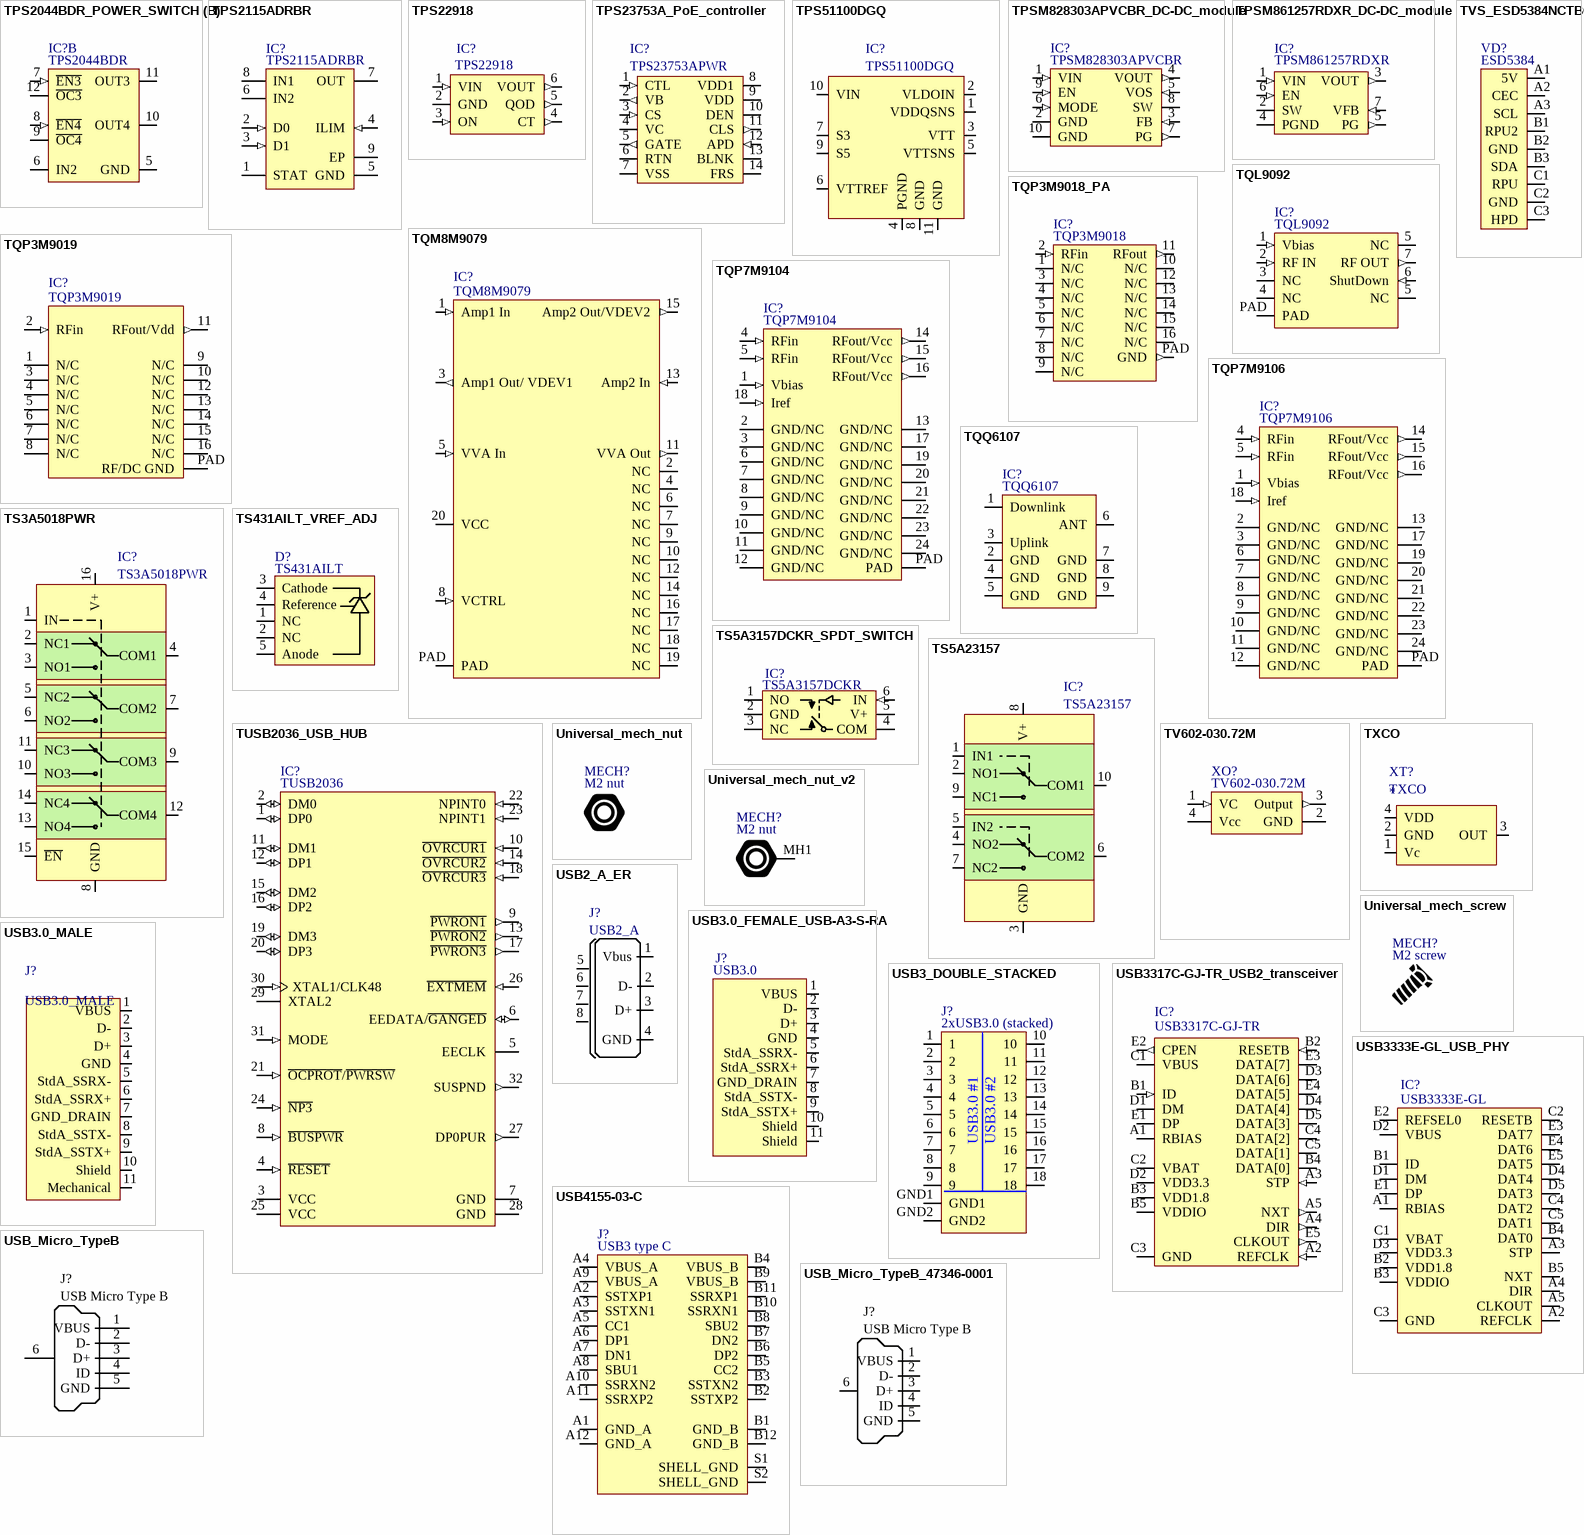
[diagram p69: symbols TPS2044BDR_POWER_SWITCH to USB_Micro_TypeB_47346-0001]

## TPS2044BDR_POWER_SWITCH
designator IC?, comment TPS2044BDR
Part Description: Power Switch ICs - Power Distribution Quad Current-Limited; Manufacturer: Texas Instruments; Number of Outputs: 4; Min Supply Voltage: 2.7V; Max Supply Voltage: 5.5V; On-State Resistance: 70mR; Max Power Dissipation: 898.47mW; Supplier 1: Digi-Key; Supplier Part Number 1: 296-26909-1-ND; Manufacturer Part Number 1: TPS2044BDR; Stock 1: 0; RoHS: Yes; Case/Package: D; Number of Pins: 16; Weight: 0.004998oz; Min Operating Temperature: -40°C; Max Operating Temperature: 85°C; Packaging: Tape and Reel; Package Quantity: 1; Max Input Voltage: 5.5V; Min Input Voltage: 2.7V; Radiation Hardening: No; Lead Free: Lead Free; RoHS Compliant: Yes; REACH SVHC: No SVHC; ComponentLink1URL: https://datasheet.ciiva.com/15108/getdatasheetpartid-293155-15108504.pdf?src-supplier=Verical; ComponentLink1Description: https://datasheet.ciiva.com/15108/getdatasheetpartid-293155-15108504.pdf?src-supplier=Verical; ComponentLink2URL: https://datasheet.ciiva.com/41462/001014674-da-01-en-ic-switch-pwr-dis-tps2044bdr-soic-16-tid-41462523.pdf?src-supplier=Conrad; ComponentLink2Description: https://datasheet.ciiva.com/41462/001014674-da-01-en-ic-switch-pwr-dis-tps2044bdr-soic-16-tid-41462523.pdf?src-supplier=Conrad; ComponentLink3URL: https://datasheet.ciiva.com/1512/1882062-1512798.pdf?src-supplier=Element14; ComponentLink3Description: https://datasheet.ciiva.com/1512/1882062-1512798.pdf?src-supplier=Element14; ComponentLink4URL: https://datasheet.ciiva.com/1962/tps2051b-1962775.pdf?src-supplier=Digi-Key; ComponentLink4Description: https://datasheet.ciiva.com/1962/tps2051b-1962775.pdf?src-supplier=Digi-Key; ComponentLink5URL: https://datasheet.ciiva.com/1962/tps2051b-1962774.pdf?src-supplier=Digi-Key; ComponentLink5Description: https://datasheet.ciiva.com/1962/tps2051b-1962774.pdf?src-supplier=Digi-Key; ComponentLink6URL: https://datasheet.ciiva.com/1962/tps2051b-1962776.pdf?src-supplier=Digi-Key; ComponentLink6Description: https://datasheet.ciiva.com/1962/tps2051b-1962776.pdf?src-supplier=Digi-Key
footprint TPS2044BDR_POWER_SWITCH_SOIC16
part A pins: 1 GND (power) "Ground", 2 IN1 (power) "Input voltage for OUT1 and OUT2", 3 ~{EN1} (in) "Enable input, logic high turns on power switch IN1-OUT1", 4 ~{EN2} (in) "Enable input, logic high turns on power switch IN1-OUT2", 13 ~{OC2} (oc) "Overcurrent, open-drain output, active low, IN1-OUT2", 14 OUT2 (power) "Power-switch output, IN1-OUT2", 15 OUT1 (power) "Power-switch output, IN1-OUT1", 16 ~{OC1} (oc) "Overcurrent, open-drain output, active low, IN1-OUT1"
part B pins: 5 GND (power) "Ground", 6 IN2 (power) "Input voltage for OUT3", 7 ~{EN3} (in) "Enable input, logic high turns on power switch IN2-OUT3", 8 ~{EN4} (in) "Enable input, logic low turns on power switch IN2-OUT4", 9 ~{OC4} (oc) "Overcurrent, open-drain output, active low, IN2-OUT4", 10 OUT4 (power) "Power-switch output, IN2-OUT4", 11 OUT3 (power) "Power-switch output, IN2-OUT3", 12 ~{OC3} (oc) "Overcurrent, open-drain output, active low, IN2-OUT3"

## TPS2115ADRBR
designator IC?
Dual In / Single Out Autoswitching Power Mux, 2.8 to 5.5 V, -40 to 85 degC, 8-pin SON (DRB), Green (RoHS & no Sb/Br); Part Description: n  OR Controller Source Selector Switch N-Channel 2:1 8-SON (3x3); Manufacturer: Texas Instruments; FET Type: N-Channel; Ratio - Input:Output: 2:1; Internal Switch(s): Yes; Current - Output (Max): 2A; Voltage - Supply: 2.8 V ~ 5.5 V; Supplier 1: Digi-Key; Manufacturer Part Number: TPS2115ADRBR; RoHS: RoHS Compliant; Category: Integrated Circuits (ICs); Stock 1: 12146; Pricing 1: 1=2.01, 10=1.801, 100=1.448, 500=1.18966, 1000=0.98571 (USD); Packaging: Digi-Reel®; Part Status: Active; Type: Source Selector Switch; Applications: Handheld/Mobile Devices; Operating Temperature: -40°C ~ 85°C; Mounting Type: Surface Mount; Package / Case: 8-VDFN Exposed Pad; Supplier Device Package: 8-SON (3x3); Base Part Number: TPS2115A; ComponentLink1URL: http://www.ti.com/lit/ds/symlink/tps2115a.pdf; ComponentLink1Description: http://www.ti.com/lit/ds/symlink/tps2115a.pdf; Supplier Part Number 1: 296-23394-6-ND
footprint TPS2115ADRBR_8SON (SON, 8-Leads, Body 3x3mm, Pitch 0.65mm, Thermal Pad 2.4x1.65mm, TI Recommended)
pins: 1 STAT (hiz) "STAT is an open-drain output that is Hi-Z if the IN2 switch is ON. STAT pulls low if the IN1 switch is ON or if OUT is Hi-Z (i.e., E\N\ is equal to logic 0).", 2 D0 (in) "TTL- and CMOS-compatible input pins. Each pin has a 1-uA pull-up.", 3 D1 (in) "TTL- and CMOS-compatible input pins. Each pin has a 1-uA pull-up.", 4 ILIM (in) "A resistor RILIM from ILIM to GND sets the current limit IL to 500/RILIM", 5 GND (power) "Ground", 6 IN2 (power) "Secondary power switch input. The IN2 switch can be enabled only if the IN2 supply is above the UVLO threshold and at least one supply exceeds the internal VDD UVLO.", 7 OUT (power) "Power switch output", 8 IN1 (power) "Primary power switch input. The IN1 switch can be enabled only if the IN1 supply is above the UVLO threshold and at least one supply exceeds the internal VDD UVLO.", 9 EP (power) "Tie to GND. Connect to internal planes for improved heatsinking with multiple vias."

## TPS22918
designator IC?
Part Description: IC PWR DIST SWITCH SNGL SOT23-6; Manufacturer: Texas Instruments; Manufacturer Part Number: TPS22918DBVT; Switch Type: General Purpose; Number of Outputs: 1; Ratio - Input:Output: 1:1; Output Configuration: High Side; Output Type: N-Channel; Interface: On/Off; Voltage - Load: 1 V ~ 5.5 V; Voltage - Supply (Vcc/Vdd): Not Required; Current - Output (Max): 2A; Rds On (Typ): 53 mOhm; Input Type: Non-Inverting; Supplier 1: Digi-Key; RoHS: RoHS Compliant; Category: Integrated Circuits (ICs); Stock 1: 16592; Pricing 1: 1=0.63, 10=0.551, 100=0.4222 (USD); Packaging: Digi-Reel®; Part Status: Active; Features: Load Discharge, Slew Rate Controlled; Fault Protection: -; Operating Temperature: -40°C ~ 105°C (TA); Package / Case: SOT-23-6; Supplier Device Package: SOT-23-6; ComponentLink1URL: http://www.ti.com/lit/ds/symlink/tps22918.pdf; ComponentLink1Description: http://www.ti.com/lit/ds/symlink/tps22918.pdf; Supplier Part Number 1: 296-44073-6-ND
footprint SOT23-6
pins: 1 VIN (in), 2 GND, 3 ON (in), 4 CT (out), 5 QOD (out), 6 VOUT (out)

## TPS23753A_PoE_controller
designator IC?, comment TPS23753APWR
Manufacturer: Texas Instruments; Part Description: Power Over Ethernet Controller 1 Channel 802.3at (PoE+), 802.3af (PoE) 14-TSSOP; Max Supply Voltage: 57V; Min Supply Voltage: 0uV; Number of Channels: 1; Max Power Dissipation: 13W; Operating Supply Current: 580uA; On-State Resistance: 1.2R; Turn-Off Delay Time: 60ns; Frequency: 248kHz; Min Current Limit: 405mA; Supplier 1: Digi-Key; Manufacturer Part Number 1: TPS23753APWR; RoHS: Yes; Stock 1: 40952; Pricing 1: 1 = 2,41000, 10 = 2,16200, 100 = 1,73760, 500 = 1,42758, 1000 = 1,18285 (USD); Case/Package: TSSOP; Number of Pins: 14; Contact Plating: Gold; Min Operating Temperature: -40°C; Max Operating Temperature: 125°C; Packaging: Tape and Reel; Package Quantity: 2000; Power Dissipation: 13W; Length: 5mm; Height: 1mm; Radiation Hardening: No; REACH SVHC: No SVHC; Lead Free: Lead Free; ComponentLink1URL: https://www.verical.com/server-webapp/html/getDatasheet?partID=293818; ComponentLink1Description: https://www.verical.com/server-webapp/html/getDatasheet?partID=293818; ComponentLink2URL: http://www.ti.com/lit/ds/symlink/tps23753a.pdf; ComponentLink2Description: http://www.ti.com/lit/ds/symlink/tps23753a.pdf; ComponentLink3URL: http://www.ti.com/general/docs/lit/getliterature.tsp?genericPartNumber=TPS23753A&&fileType=pdf; ComponentLink3Description: http://www.ti.com/general/docs/lit/getliterature.tsp?genericPartNumber=TPS23753A&&fileType=pdf; ComponentLink4URL: http://focus.ti.com/lit/ds/symlink/tps23753a.pdf; ComponentLink4Description: http://focus.ti.com/lit/ds/symlink/tps23753a.pdf; Supplier Part Number 1: 296-39365-1-ND
footprint TPS23753APWR _TSSOP14
pins: 1 CTL (in), 2 VB (out), 3 CS (in), 4 VC (io), 5 GATE (out), 6 RTN, 7 VSS (power), 8 VDD1 (power), 9 VDD (power), 10 DEN (io), 11 CLS (out), 12 APD (in), 13 BLNK (io), 14 FRS (io)

## TPS51100DGQ
designator IC?
Voltage - Output: 1.2 V ~ 3.6 V; Voltage - Input: 4.75 V ~ 5.25 V; Supplier 1: Digi-Key; Package / Case: 10-TFSOP, 10-MSOP (0.118", 3.00mm Width) Exposed Pad; Operating Temperature: -40°C ~ 85°C; Category: Integrated Circuits (ICs); Supplier Part Number 1: 296-23595-6-ND
footprint TPS51100DGQ (TSSOP, 10-Leads, Body 3,00x3,00mm, Pitch 0,50mm, IPC Medium Density)
pins: 1 VDDQSNS, 2 VLDOIN, 3 VTT, 4 PGND, 5 VTTSNS, 6 VTTREF, 7 S3 (in), 8 GND, 9 S5 (in), 10 VIN, 11 GND

## TPSM828303APVCBR_DC-DC_module
designator IC?, comment TPSM828303APVCBR
Part Description: Non-Isolated PoL Module DC DC Converter 1 Output 0.5 ~ 4.5V 3A 2.25V - 5.5V Input; Manufacturer: Texas Instruments; Manufacturer Lifecycle Status: ACTIVE; Topology: Buck; Supplier 1: DigiKey; Supplier Part Number 1: 296-TPSM828303APVCBRCT-ND; Manufacturer Part Number 1: TPSM828303APVCBR; Stock 1: 3220; Pricing 1: 1=3,76, 10=2,833, 25=2,6016, 100=2,347, 250=2,22552, 500=2,20626 (USD); RoHS: Compliant; Height: 0m; Length: 2.6mm; Lifecycle Status: Production; Number of Pins: 10; Thickness: 1.95mm; Width: 2.5mm; ComponentLink1URL: https://octopart.com:443/opatz8j6/c1?t=nHiClmY-8waK6VFXmW_kr_JpeDZzMdJ_AL_VXjMWtAo_teGybA2kWjSUdiOkEddRYBeU6umKhpIT9OXJ6_MGoAPPPBzFIj7yw18BrA0L6B3zoZLqjAduwyEOMJpJcWBcX7hPsQRB8q8kihSOdk_i4jjBE0tQrofk32IWpsVibfc0RvzZBGlWqGtOSDhfFNlo_GimZ5wbSu1qAZTUlK-j9bLOJH8Dj_C3dcwAV3jx7_6kaow_iTe0StxlrBJNOHijDvpK0o5xxYxdjvta9JBQ26ufI8RGgpCGxj2bw8mjhF3zOOhQEsm1H4X00W638eXdSDzCW86sYD3hmq6Zn-rAI1Bm4-vx2MMnsanhshIOwznrEzNff04PkVzyfofS-RVahmHKPR5Pz4I&src-supplier=Texas+Instruments; ComponentLink1Description: https://octopart.com:443/opatz8j6/c1?t=nHiClmY-8waK6VFXmW_kr_JpeDZzMdJ_AL_VXjMWtAo_teGybA2kWjSUdiOkEddRYBeU6umKhpIT9OXJ6_MGoAPPPBzFIj7yw18BrA0L6B3zoZLqjAduwyEOMJpJcWBcX7hPsQRB8q8kihSOdk_i4jjBE0tQrofk32IWpsVibfc0RvzZBGlWqGtOSDhfFNlo_GimZ5wbSu1qAZTUlK-j9bLOJH8Dj_C3dcwAV3jx7_6kaow_iTe0StxlrBJNOHijDvpK0o5xxYxdjvta9JBQ26ufI8RGgpCGxj2bw8mjhF3zOOhQEsm1H4X00W638eXdSDzCW86sYD3hmq6Zn-rAI1Bm4-vx2MMnsanhshIOwznrEzNff04PkVzyfofS-RVahmHKPR5Pz4I&src-supplier=Texas+Instruments; ComponentLink2URL: http://sigma.octopart.com:80/reach_statement/Texas-Instruments-company-64.pdf?src-supplier=Compliance+Statements; ComponentLink2Description: http://sigma.octopart.com:80/reach_statement/Texas-Instruments-company-64.pdf?src-supplier=Compliance+Statements; ComponentLink3URL: http://sigma.octopart.com:80/conflict_mineral_statement/Texas-Instruments-company-63.pdf?src-supplier=Compliance+Statements; ComponentLink3Description: http://sigma.octopart.com:80/conflict_mineral_statement/Texas-Instruments-company-63.pdf?src-supplier=Compliance+Statements
footprint TPSM828303APVCBR_DC-DC_module (Footprint not found)
pins: 1 VIN (in), 2 GND, 3 FB (in), 4 VOUT (out), 5 VOS (in), 6 MODE (in), 7 PG (out), 8 SW (power), 9 EN (in), 10 GND

## TPSM861257RDXR_DC-DC_module
designator IC?, comment TPSM861257RDXR
Manufacturer: Texas Instruments; Manufacturer Lifecycle Status: ACTIVE; Pert Description: Non-Isolated PoL Module DC DC Converter 1 Output 0.6 ~ 5.5V 1A 3V - 17V Input; Supplier 1: DigiKey; Supplier Part Number 1: 296-TPSM861257RDXRCT-ND; Manufacturer Part Number 1: TPSM861257RDXR; Stock 1: 2376; Pricing 1: 1=2,62, 10=1,95, 25=1,7824, 100=1,5977, 250=1,50972, 500=1,4734 (USD); RoHS: Compliant; Height: 0m; Length: 4mm; Lifecycle Status: Production; Number of Pins: 7; Thickness: 2mm; Width: 3.3mm; ComponentLink1URL: https://octopart.com:443/opatz8j6/c1?t=Exbe2RYjRcfkRiH1yY5uXyJN-3-VgW6inXJ71g8V2385Z9l-AvWyi3VvL_TrZK2KV4ntASO0ndluaHgwSrHdqI3a8ZJQrhfat358cNwqHbiRLU50LAtbLtvE8yPCPeqMWCWX2K1Km5y8bdqWgkEpg5Wzshf0waUxF5ylAqRoYys5tM8bRQCgPP7jG--tzUZYPJ-uHdh5NhyDyDkouTngmpgnDJ0aBf1cJvgPkv8b-5zfuw383riaxjK3Krng3GUUatLI0vXJIfTm-Velzjprx6CpH_DNHkdpLWKpG_-IorRlpznwQYTLDfY1PUZ7sTKDRFX7h5RVZLepFqrOgMOJoBMTfuW-AZxPNt_fHGb54p-kyNEumZHGMJ4iJ7SklyXZ0OcxCRe6bF1J&src-supplier=Texas+Instruments; ComponentLink1Description: https://octopart.com:443/opatz8j6/c1?t=Exbe2RYjRcfkRiH1yY5uXyJN-3-VgW6inXJ71g8V2385Z9l-AvWyi3VvL_TrZK2KV4ntASO0ndluaHgwSrHdqI3a8ZJQrhfat358cNwqHbiRLU50LAtbLtvE8yPCPeqMWCWX2K1Km5y8bdqWgkEpg5Wzshf0waUxF5ylAqRoYys5tM8bRQCgPP7jG--tzUZYPJ-uHdh5NhyDyDkouTngmpgnDJ0aBf1cJvgPkv8b-5zfuw383riaxjK3Krng3GUUatLI0vXJIfTm-Velzjprx6CpH_DNHkdpLWKpG_-IorRlpznwQYTLDfY1PUZ7sTKDRFX7h5RVZLepFqrOgMOJoBMTfuW-AZxPNt_fHGb54p-kyNEumZHGMJ4iJ7SklyXZ0OcxCRe6bF1J&src-supplier=Texas+Instruments; ComponentLink2URL: https://datasheet.octopart.com:443/TPSM861257RDXR-Texas-Instruments-datasheet-182662462.pdf?src-supplier=LCSC; ComponentLink2Description: https://datasheet.octopart.com:443/TPSM861257RDXR-Texas-Instruments-datasheet-182662462.pdf?src-supplier=LCSC; ComponentLink3URL: http://sigma.octopart.com:80/reach_statement/Texas-Instruments-company-64.pdf?src-supplier=Compliance+Statements; ComponentLink3Description: http://sigma.octopart.com:80/reach_statement/Texas-Instruments-company-64.pdf?src-supplier=Compliance+Statements; ComponentLink4URL: http://sigma.octopart.com:80/conflict_mineral_statement/Texas-Instruments-company-63.pdf?src-supplier=Compliance+Statements; ComponentLink4Description: http://sigma.octopart.com:80/conflict_mineral_statement/Texas-Instruments-company-63.pdf?src-supplier=Compliance+Statements
footprint TPSM861257RDXR_DC-DC_module (Footprint not found)
pins: 1 VIN (in), 2 SW, 3 VOUT (out), 4 PGND (power), 5 PG (out), 6 EN (in), 7 VFB (in)

## TQL9092
designator IC?
Part Description: RF Amplifier .6-4.2GHz NF .6dB Flat Gain 2dB
footprint TQL9092
pins: 1 Vbias (in), 2 RF IN (in), 3 NC, 4 NC, 5 NC, 5 NC, 6 ShutDown (in), 7 RF OUT (out), PAD

## TQM8M9079
designator IC?
Part Description: RF Amplifier 500-2700MHz NF 4dB Gain 38dB Attn. 30dB; Manufacturer: Qorvo; Manufacturer Part Number 1: TQM8M9079; Supplier Part Number 1: 772-TQM8M9079; Supplier 1: Mouser
footprint TQM8M9079
pins: 1 Amp1 In (in), 2 NC, 3 Amp1 Out/ VDEV1 (out), 4 NC, 5 VVA In (in), 6 NC, 7 NC, 8 VCTRL (in), 9 NC, 10 NC, 11 VVA Out (out), 12 NC, 13 Amp2 In (in), 14 NC, 15 Amp2 Out/VDEV2 (out), 16 NC, 17 NC, 18 NC, 19 NC, 20 VCC (power), PAD

## TQP3M9018_PA
designator IC?, comment TQP3M9018
Part Description: RF Amplifier .05-4GHz P1dB= 22dB Gain 26.4dB 5Volts; Manufacturer: Qorvo; Manufacturer Part Number 1: TQP3M9019; Supplier 1: Mouser; Supplier Part Number 1: 772-TQP3M9019; Stock 1: 6804; Pricing 1: 1=7,48, 10=7,48, 50=5,43, 100=4,41, 1000=2,44, 10000=2,35 (USD); RoHS: Yes
footprint TQP3M9018_PA_QFN16
pins: 1 N/C, 2 RFin (in), 3 N/C, 4 N/C, 5 N/C, 6 N/C, 7 N/C, 8 N/C, 9 N/C, 10 N/C, 11 RFout (out), 12 N/C, 13 N/C, 14 N/C, 15 N/C, 16 N/C, PAD GND (out)

## TQP3M9019
designator IC?
High Linearity LNA Gain Block (20 – 4000 MHz)
footprint TQP3M9019_QFN3X3-16 (Quad Flat No Lead, Plastic; 16 Terminals; Body 3 x 3 mm; Pitch 0.5 mm)
pins: 1 N/C, 2 RFin (in), 3 N/C, 4 N/C, 5 N/C, 6 N/C, 7 N/C, 8 N/C, 9 N/C, 10 N/C, 11 RFout/Vdd (out), 12 N/C, 13 N/C, 14 N/C, 15 N/C, 16 N/C, PAD RF/DC GND